# EAGLE library part PINHD-8 (library m_connector)
8 Pin Header
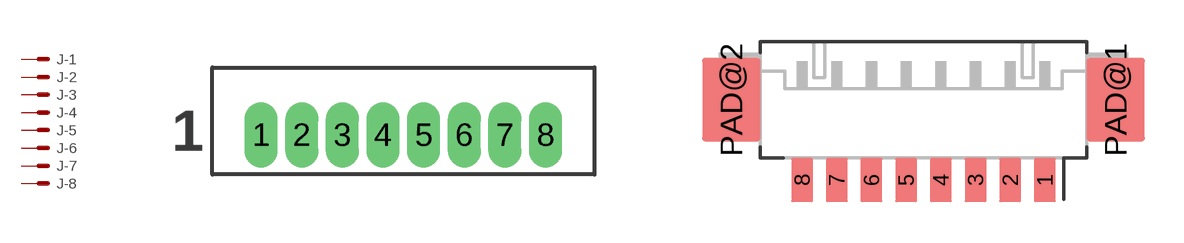
[diagram p13: symbol with the pads of MOLEX_53047-0810; footprints MOLEX_53047-0810, MOLEX_53261-0871]

Designator prefix J; gates -1=M -2=M -3=M -4=M -5=M -6=M -7=M -8=M

## PINHD-8MOLEX-PICOBLADE (MANUF: Molex; PARTNUM: 53047-0810)  [MOLEX_53047-0810]
1  -1:S  pas
2  -2:S  pas
3  -3:S  pas
4  -4:S  pas
5  -5:S  pas
6  -6:S  pas
7  -7:S  pas
8  -8:S  pas

## PINHD-8MOLEX-PICOBLADE-SMT-RIGHT_ANGLE (MANUF: Molex; PARTNUM: 53261-0871)  [MOLEX_53261-0871]
Pads as for MOLEX_53047-0810

## Footprint MOLEX_53047-0810 (pad centres in mm)
Molex 53047 Series, 1.25mm Pitch, 8 Conductor Molex 1.25mm pitch through hole connector. Pre tinned phosphor bronze pins, mates with 51021 series.
drill 0.5 long: 1 -4.375,0; 2 -3.125,0; 3 -1.875,0; 4 -0.625,0; 5 0.625,0; 6 1.875,0; 7 3.125,0; 8 4.375,0

## Footprint MOLEX_53261-0871 (pad centres in mm)
Molex 53261 Series PicoBlade, 1.25mm Pitch, Right Angle, SMT, 8 Conductor Molex 1.25mm pitch right angle SMT connector. Pre tinned phosphor bronze pins, mates with 51021 series.
smd 0.8 x 1.6: 1 4.375,-0.8; 2 3.125,-0.8; 3 1.875,-0.8; 4 0.625,-0.8; 5 -0.625,-0.8; 6 -1.875,-0.8; 7 -3.125,-0.8; 8 -4.375,-0.8
smd 2.1 x 3: PAD@1 6.925,2.1; PAD@2 -6.925,2.1